# EAGLE library part A000062 (library Arduino due)
Check availability <https://pricing.snapeda.com/parts/A000062/Arduino/view-part?ref=eda>
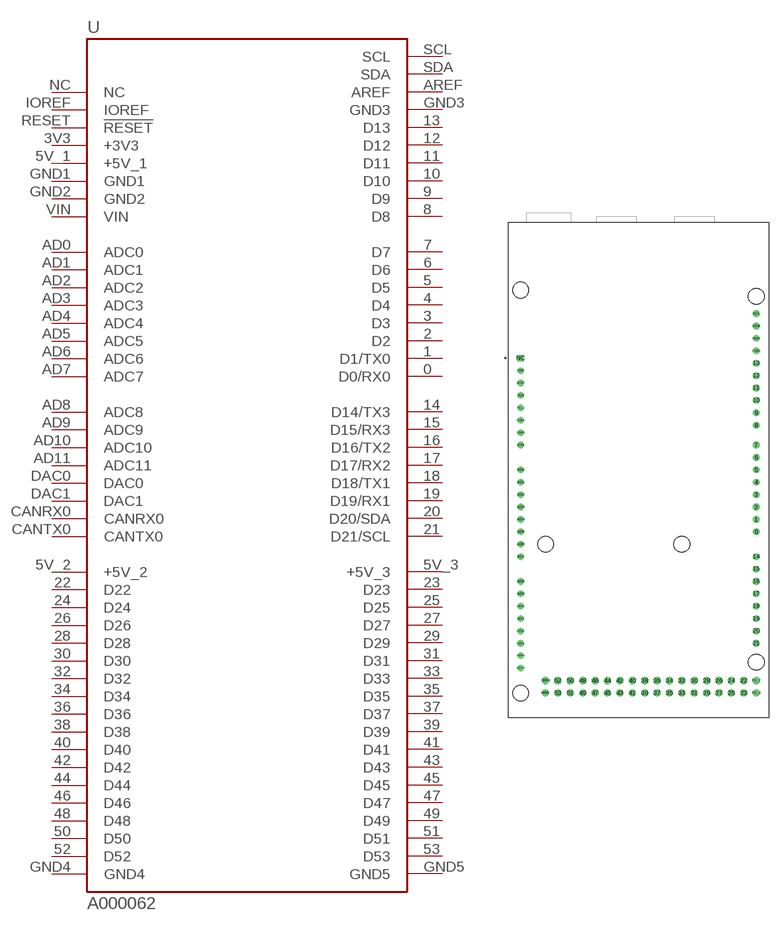
[diagram p0: symbol with the pads of MODULE_A000062; footprint MODULE_A000062]

Designator prefix U

## A000062 (Availability: In Stock; Check_prices: https://www.snapeda.com/parts/A000062/Arduino/view-part/?ref=eda; Description: The Arduino Due is an advanced microcontroller board featuring the 32 bit ARM Cortex-M3 core processor with the AT91SAM3X8E MCU with 96KB SRAM and 512KB flash. This board operates at a clock speed of 84 MHz and supports a 3.3V logic level voltage. It offers a comprehensive set of connectivity options, including I2C, UART, and SPI, and is compatible with the Arduino MEGA Shield interconnect system. . The Arduino Due is fully programmable using the Arduino IDE, making it an ideal choice for complex prototyping and development projects.; MF: Arduino; MP: A000062; Package: None; Price: None; SnapEDA_Link: https://www.snapeda.com/parts/A000062/Arduino/view-part/?ref=snap)  [MODULE_A000062]
0  D0/RX0
1  D1/TX0
2  D2
3  D3
3V3  +3V3  pwr
4  D4
5  D5
5V_1  +5V_1  pwr
5V_2  +5V_2  pwr
5V_3  +5V_3  pwr
6  D6
7  D7
8  D8
9  D9
10  D10
11  D11
12  D12
13  D13
14  D14/TX3
15  D15/RX3
16  D16/TX2
17  D17/RX2
18  D18/TX1
19  D19/RX1
20  D20/SDA
21  D21/SCL
22  D22
23  D23
24  D24
25  D25
26  D26
27  D27
28  D28
29  D29
30  D30
31  D31
32  D32
33  D33
34  D34
35  D35
36  D36
37  D37
38  D38
39  D39
40  D40
41  D41
42  D42
43  D43
44  D44
45  D45
46  D46
47  D47
48  D48
49  D49
50  D50
51  D51
52  D52
53  D53
AD0  ADC0
AD1  ADC1
AD2  ADC2
AD3  ADC3
AD4  ADC4
AD5  ADC5
AD6  ADC6
AD7  ADC7
AD8  ADC8
AD9  ADC9
AD10  ADC10
AD11  ADC11
AREF  AREF  in
CANRX0  CANRX0
CANTX0  CANTX0
DAC0  DAC0
DAC1  DAC1
GND1  GND1  pwr
GND2  GND2  pwr
GND3  GND3  pwr
GND4  GND4  pwr
GND5  GND5  pwr
IOREF  IOREF
NC  NC  nc
RESET  !RESET  in
SCL  SCL
SDA  SDA
VIN  VIN  in

## Footprint MODULE_A000062 (pad centres in mm)
drill 0.85: 0 24.13,-12.7; 1 24.13,-10.16; 2 24.13,-7.62; 3 24.13,-5.08; 3V3 -24.13,15.24; 4 24.13,-2.54; 5 24.13,0; 5V_1 -24.13,12.7; 6 24.13,2.54; 7 24.13,5.08; 8 24.13,9.144; 9 24.13,11.684; 10 24.13,14.224; 11 24.13,16.764; 12 24.13,19.304; 13 24.13,21.844; 14 24.13,-17.78; 15 24.13,-20.32; 16 24.13,-22.86; 17 24.13,-25.4; 18 24.13,-27.94; 19 24.13,-30.48; 20 24.13,-33.02; 21 24.13,-35.56; AD0 -24.13,0; AD1 -24.13,-2.54; AD2 -24.13,-5.08; AD3 -24.13,-7.62; AD4 -24.13,-10.16; AD5 -24.13,-12.7; AD6 -24.13,-15.24; AD7 -24.13,-17.78; AD8 -24.13,-22.86; AD9 -24.13,-25.4; AD10 -24.13,-27.94; AD11 -24.13,-30.48; AREF 24.13,26.924; CANRX0 -24.13,-38.1; CANTX0 -24.13,-40.64; DAC0 -24.13,-33.02; DAC1 -24.13,-35.56; GND1 -24.13,10.16; GND2 -24.13,7.62; GND3 24.13,24.384; IOREF -24.13,20.32; RESET -24.13,17.78; SCL 24.13,32.004; SDA 24.13,29.464; VIN -24.13,5.08
drill 0.95: 5V_2 24.13,-43.18; 5V_3 24.13,-45.72; 22 21.59,-43.18; 23 21.59,-45.72; 24 19.05,-43.18; 25 19.05,-45.72; 26 16.51,-43.18; 27 16.51,-45.72; 28 13.97,-43.18; 29 13.97,-45.72; 30 11.43,-43.18; 31 11.43,-45.72; 32 8.89,-43.18; 33 8.89,-45.72; 34 6.35,-43.18; 35 6.35,-45.72; 36 3.81,-43.18; 37 3.81,-45.72; 38 1.27,-43.18; 39 1.27,-45.72; 40 -1.27,-43.18; 41 -1.27,-45.72; 42 -3.81,-43.18; 43 -3.81,-45.72; 44 -6.35,-43.18; 45 -6.35,-45.72; 46 -8.89,-43.18; 47 -8.89,-45.72; 48 -11.43,-43.18; 49 -11.43,-45.72; 50 -13.97,-43.18; 51 -13.97,-45.72; 52 -16.51,-43.18; 53 -16.51,-45.72; GND4 -19.05,-43.18; GND5 -19.05,-45.72
drill 0.85 square: NC -24.13,22.86
hole 3.2 at -24.13,36.83
hole 3.2 at -19.05,-15.24
hole 3.2 at 8.89,-15.24
hole 3.2 at 24.13,35.56
hole 3.2 at -24.13,-45.72
hole 3.2 at 24.13,-39.37